# Altium schematic symbol library CJS-1200TA2.SchLib: 1 symbol
Pins are listed as number, name and electrical type; pins without a type are passive.

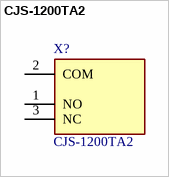
[diagram p0: symbol CJS-1200TA2]

## CJS-1200TA2
designator X?
SPDT, ON-ON Slide, 100mA @ 6V DC J-Hook SMD Terminals, T&R 1,000 pc Packaging, Non-washable with tape - Tape and Reel; Manufacturer_Name: Nidec Copal; Geometry.Height: 2.5mm; Manufacturer_Part_Number: CJS-1200TA2; Mouser Part Number: 229-CJS-1200TA2; Mouser Price/Stock: https://www.mouser.co.uk/ProductDetail/Nidec-Components/CJS-1200TA2?qs=XeJtXLiO41Rf26ws0igWdA%3D%3D; Arrow Part Number: *; Arrow Price/Stock: *; Datasheet Link: http://www.nidec-copal-electronics.com/j/catalog/switch/cjs.pdf
footprint CJS1200TA2
pins: 1 NO, 2 COM, 3 NC